# Altium footprint library 7 segment library.PcbLib: 1 footprints
Each footprint in its own frame and in the unit in brackets; x right, y up, seen from the top. Pads: shape width x height; smd on the part's side, far side on the other; paste and mask are expansions set on the pad; w line width, h text height; cw(c..) or ccw(c..) is an arc to the next point about the centre after c.
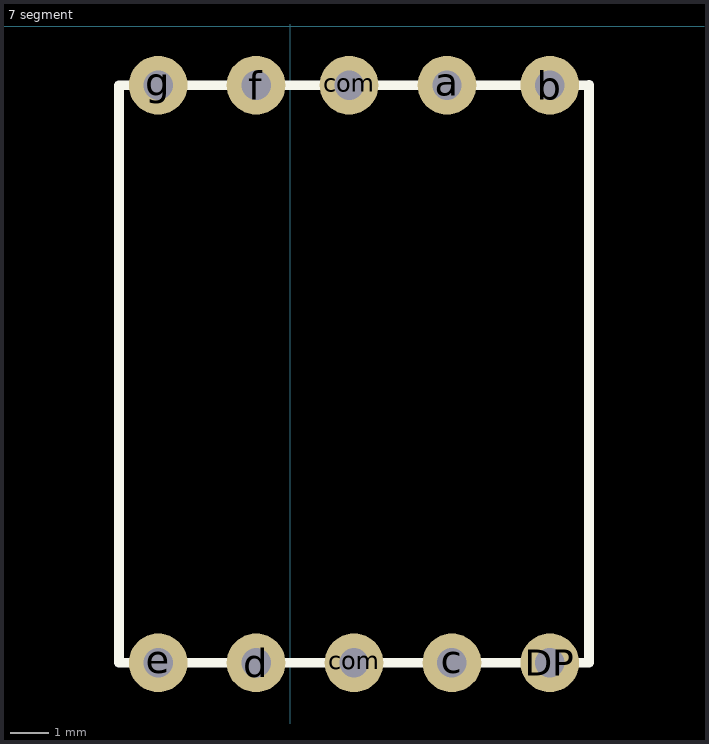
[diagram p0: the footprint, top view; thin cyan lines are the x and y axes]

## 7 segment [mil]
pads (10):
  round 60 hole 30: a(160,-60) b(265,-60) c(165,-650) com(60,-60) com(65,-650) d(-35,-650) DP(265,-650) e(-135,-650) f(-35,-60) g(-135,-60)
Top Overlay:
  lines w10: 305,-60 -175,-60 -175,-650 305,-650 305,-59.45